# Altium footprint library SM_IPC_L_0402.PcbLib: 1 footprints
Each footprint in its own frame and in the unit in brackets; x right, y up, seen from the top. Pads: shape width x height; smd on the part's side, far side on the other; paste and mask are expansions set on the pad; w line width, h text height; cw(c..) or ccw(c..) is an arc to the next point about the centre after c.
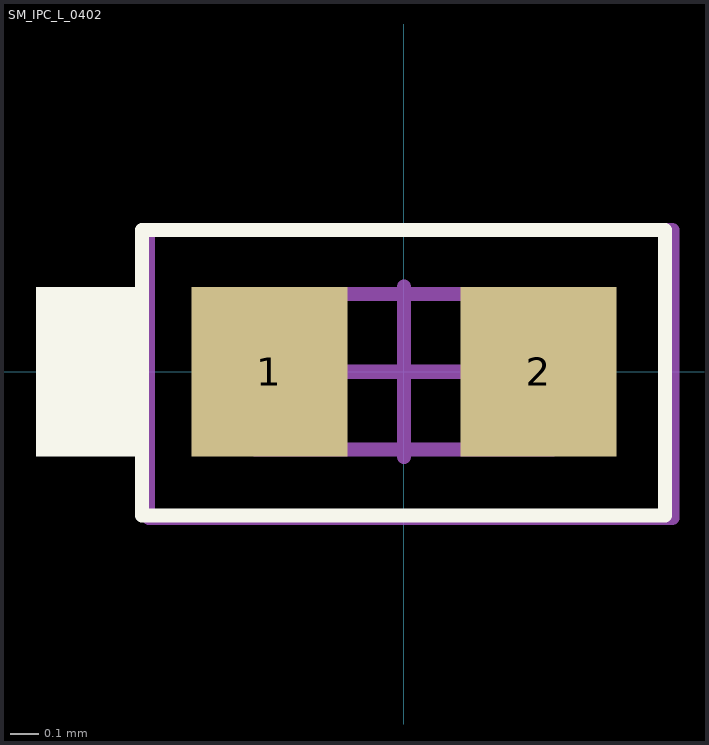
[diagram p0: the footprint, top view; thin cyan lines are the x and y axes]

## SM_IPC_L_0402 [mm]
pads (2):
  rect 0.55x0.6 smd: 1(-0.475,0) 2(0.475,0)
Top Overlay:
  rectangle: -1.3,-0.3 -0.95,0.3
  lines w0.05: -0.925,-0.508 0.922,-0.508 0.922,0.5 -0.925,0.5 -0.925,-0.508
Mechanical 5:
  rectangle: -0.694,-0.275 -0.519,0.275
  lines w0.05: -0.525,-0.275 -0.525,0.275 0.525,0.275 0.525,-0.275 -0.525,-0.275
  text ".Designator" at -1.143,0.635 h0.25
Mechanical 15:
  lines w0.05: -0.905,-0.5 -0.905,0.5 ; -0.9,-0.516 0.947,-0.516 0.947,0.5 -0.9,0.5 ; -0.3,0 0.3,0 ; -0.225,0 0.325,0 ; 0,-0.3 0,0.3
3D body: height 0.55, standoff 0.54, extent -0.274,-0.274 -0.001,0.274
3D body: height 0.55, standoff 0, extent 0.276,-0.274 0.524,0.274
3D body: height 0.54, standoff 0, extent -0.274,-0.274 0.274,0.274
3D body: height 0.55, standoff 0, extent -0.524,-0.274 -0.276,0.274